# Altium integrated library TI Power Management Battery Management.IntLib: 949 symbols (part 59 of 62)
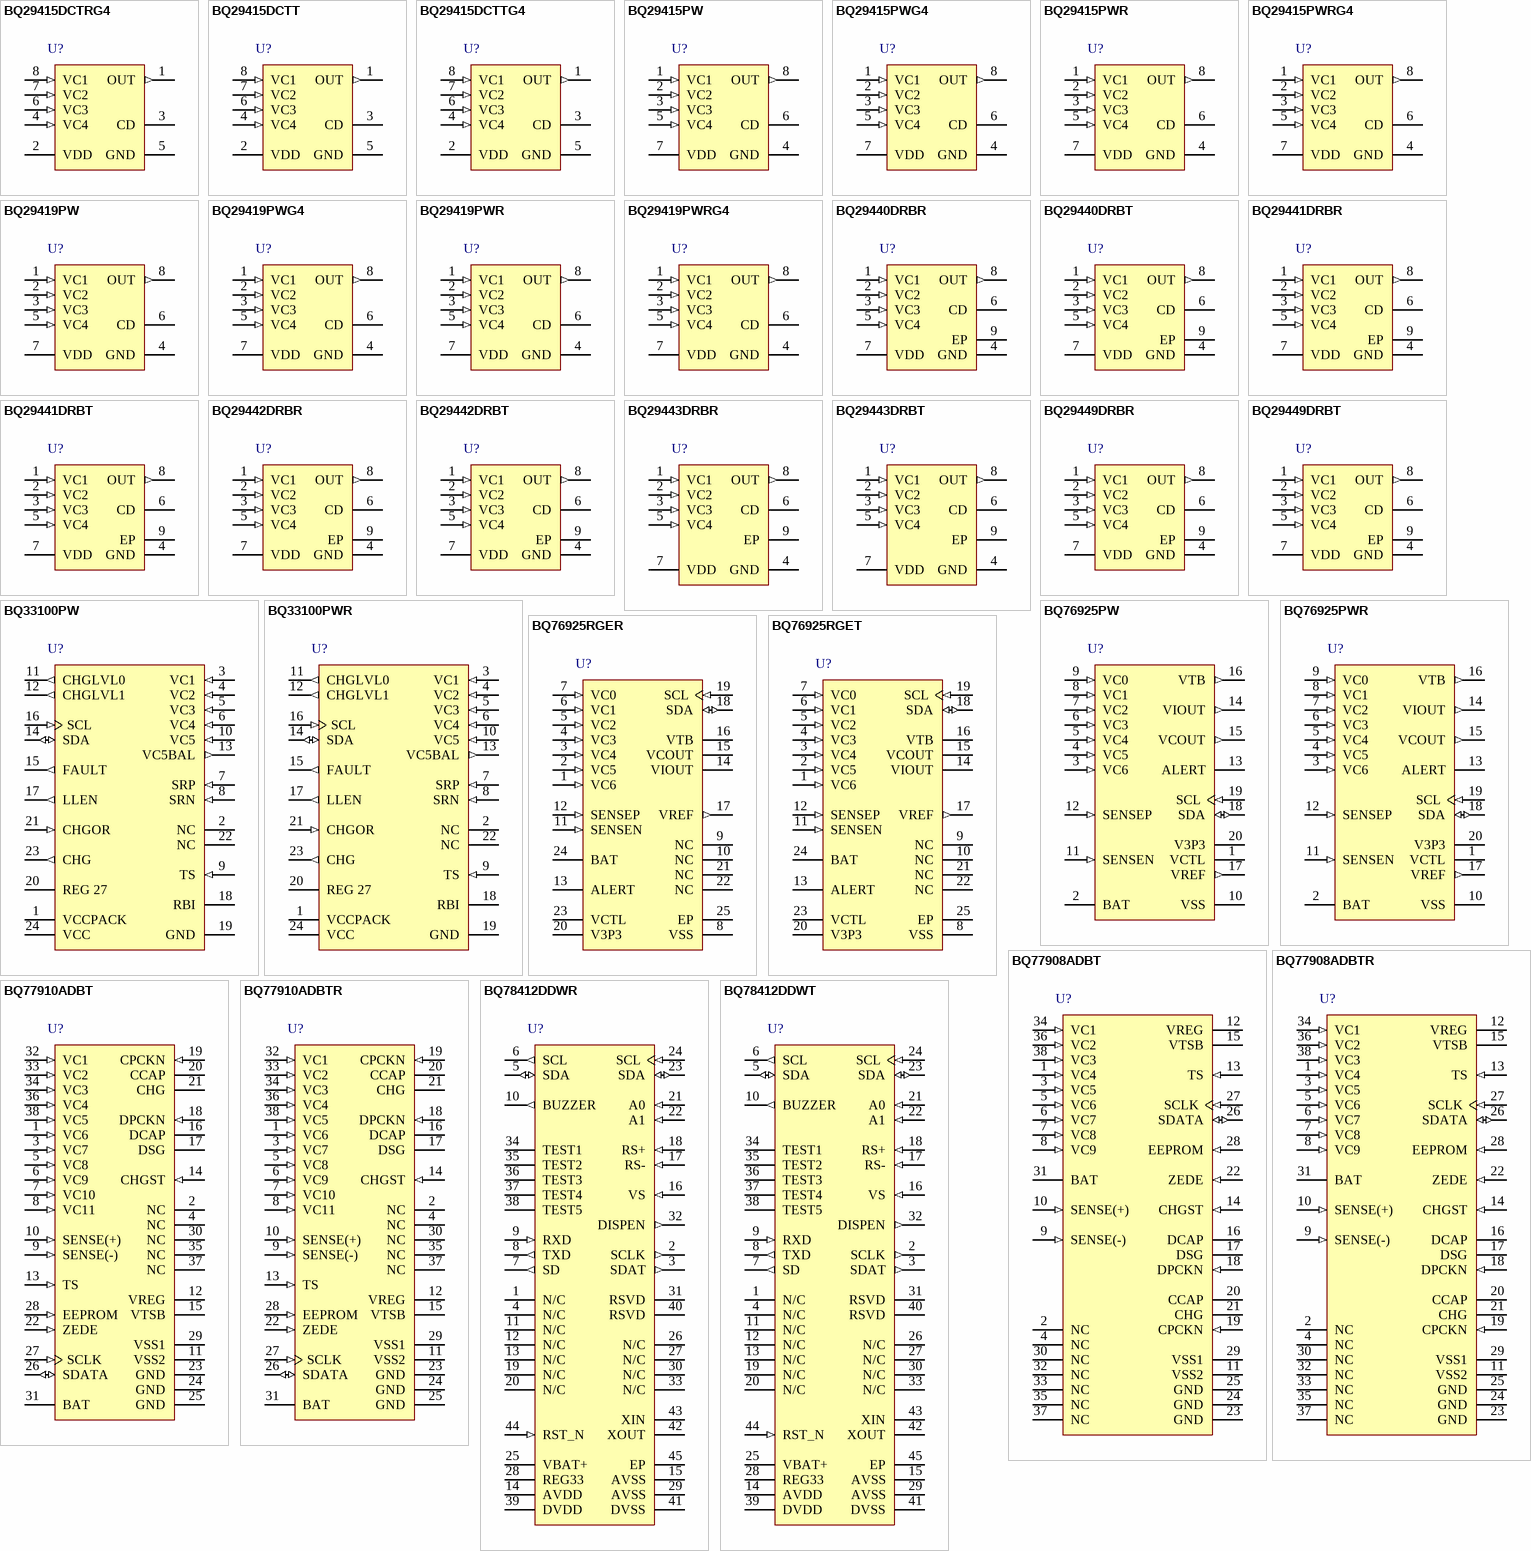
[diagram p92: symbols BQ29415DCTRG4 to BQ78412DDWT]

## BQ29415PWG4
designator U?
Secondary Over Voltage Protection for 2 to 4 Cell in Series Li-Ion / Poly (4.60 V), -40 to 110 degC, 8-pin TSSOP (PW), Green (RoHS & no Sb/Br); PartNumber: BQ29415PWG4; Manufacturer: Texas Instruments; Lead Acid: N; Li-Ion: Y; SubFamily: Lithium Ion Protection; DatasheetVersion: SLUS669G; PackageVersion: revG, Feb-2011; PackageReference: PW8; PackageDescription: 8-Pin Plastic Thin Small Outline Package 3 x 4.4 mm Body ,0.65 mm Pitch; Supplier 1: Digi-Key; Supplier Part Number 1: BQ29415PWG4-ND; Supplier 2: Mouser; Supplier Part Number 2: 595-BQ29415PWG4; Eco-Plan: Green (RoHS & no Sb/Br); Li-Polymer: Y; NiCd: N; NiMH: N; Over Voltage Protection: Y; Mounting Technology: Surface Mount; Code_JEDEC: MO-153; ComponentLink1Description: Datasheet; ComponentLink1URL: http://www.ti.com/general/docs/lit/getliterature.tsp?genericPartNumber=BQ29415&fileType=pdf
footprint PW8_N (TSOP, 8-Leads, Body 3x4.4mm, Pitch 0.65mm, IPC Medium Density)
footprint PW8_L (TSOP, 8-Leads, Body 3x4.4mm, Pitch 0.65mm, IPC High Density)
footprint PW8_M (TSOP, 8-Leads, Body 3x4.4mm, Pitch 0.65mm, IPC Low Density)
pins: 1 VC1 (in) "Sense voltage input for most positive cell", 2 VC2 (in) "Sense voltage input for second most positive cell", 3 VC3 (in) "Sense voltage input for third most positive cell", 4 GND (power) "Ground pin", 5 VC4 (in) "Sense voltage input for least positive cell", 6 CD "An external capacitor is connected to determine the programmable delay time", 7 VDD (power) "Power supply", 8 OUT (out) "Output"

## BQ29415PWR
designator U?
Secondary Over Voltage Protection for 2 to 4 Cell in Series Li-Ion / Poly (4.60 V), -40 to 110 degC, 8-pin TSSOP (PW), Green (RoHS & no Sb/Br); PartNumber: BQ29415PWR; Manufacturer: Texas Instruments; Lead Acid: N; Li-Ion: Y; SubFamily: Lithium Ion Protection; DatasheetVersion: SLUS669G; PackageVersion: revG, Feb-2011; PackageReference: PW8; PackageDescription: 8-Pin Plastic Thin Small Outline Package 3 x 4.4 mm Body ,0.65 mm Pitch; Supplier 1: Digi-Key; Supplier Part Number 1: 296-21380-2-ND; Supplier 2: Digi-Key; Supplier Part Number 2: 296-21380-1-ND; Supplier 3: Digi-Key; Supplier Part Number 3: 296-21380-6-ND; Supplier 4: Newark; Supplier Part Number 4: 26M8972; Supplier 5: Mouser; Supplier Part Number 5: 595-BQ29415PWR; Eco-Plan: Green (RoHS & no Sb/Br); Li-Polymer: Y; NiCd: N; NiMH: N; Over Voltage Protection: Y; Mounting Technology: Surface Mount; Code_JEDEC: MO-153; ComponentLink1Description: Datasheet; ComponentLink1URL: http://www.ti.com/general/docs/lit/getliterature.tsp?genericPartNumber=BQ29415&fileType=pdf
footprint PW8_N (TSOP, 8-Leads, Body 3x4.4mm, Pitch 0.65mm, IPC Medium Density)
footprint PW8_L (TSOP, 8-Leads, Body 3x4.4mm, Pitch 0.65mm, IPC High Density)
footprint PW8_M (TSOP, 8-Leads, Body 3x4.4mm, Pitch 0.65mm, IPC Low Density)
pins: 1 VC1 (in) "Sense voltage input for most positive cell", 2 VC2 (in) "Sense voltage input for second most positive cell", 3 VC3 (in) "Sense voltage input for third most positive cell", 4 GND (power) "Ground pin", 5 VC4 (in) "Sense voltage input for least positive cell", 6 CD "An external capacitor is connected to determine the programmable delay time", 7 VDD (power) "Power supply", 8 OUT (out) "Output"

## BQ29415PWRG4
designator U?
Secondary Over Voltage Protection for 2 to 4 Cell in Series Li-Ion / Poly (4.60 V), -40 to 110 degC, 8-pin TSSOP (PW), Green (RoHS & no Sb/Br); PartNumber: BQ29415PWRG4; Manufacturer: Texas Instruments; Lead Acid: N; Li-Ion: Y; SubFamily: Lithium Ion Protection; DatasheetVersion: SLUS669G; PackageVersion: revG, Feb-2011; PackageReference: PW8; PackageDescription: 8-Pin Plastic Thin Small Outline Package 3 x 4.4 mm Body ,0.65 mm Pitch; Supplier 1: Digi-Key; Supplier Part Number 1: BQ29415PWRG4-ND; Supplier 2: Newark; Supplier Part Number 2: 28M4700; Supplier 3: Mouser; Supplier Part Number 3: 595-BQ29415PWRG4; Eco-Plan: Green (RoHS & no Sb/Br); Li-Polymer: Y; NiCd: N; NiMH: N; Over Voltage Protection: Y; Mounting Technology: Surface Mount; Code_JEDEC: MO-153; ComponentLink1Description: Datasheet; ComponentLink1URL: http://www.ti.com/general/docs/lit/getliterature.tsp?genericPartNumber=BQ29415&fileType=pdf
footprint PW8_N (TSOP, 8-Leads, Body 3x4.4mm, Pitch 0.65mm, IPC Medium Density)
footprint PW8_L (TSOP, 8-Leads, Body 3x4.4mm, Pitch 0.65mm, IPC High Density)
footprint PW8_M (TSOP, 8-Leads, Body 3x4.4mm, Pitch 0.65mm, IPC Low Density)
pins: 1 VC1 (in) "Sense voltage input for most positive cell", 2 VC2 (in) "Sense voltage input for second most positive cell", 3 VC3 (in) "Sense voltage input for third most positive cell", 4 GND (power) "Ground pin", 5 VC4 (in) "Sense voltage input for least positive cell", 6 CD "An external capacitor is connected to determine the programmable delay time", 7 VDD (power) "Power supply", 8 OUT (out) "Output"

## BQ29419PW
designator U?
Voltage Protection for 2, 3, or 4 Cell Li-Ion Batteries, -40 to 110 degC, 8-pin TSSOP (PW), Green (RoHS & no Sb/Br); PartNumber: BQ29419PW; Manufacturer: Texas Instruments; Lead Acid: N; Li-Ion: Y; SubFamily: Lithium Ion Protection; DatasheetVersion: SLUS669G; PackageVersion: revG, Feb-2011; PackageReference: PW8; PackageDescription: 8-Pin Plastic Thin Small Outline Package 3 x 4.4 mm Body ,0.65 mm Pitch; Supplier 1: Digi-Key; Supplier Part Number 1: 296-32619-ND; Supplier 2: Farnell; Supplier Part Number 2: 1647907; Supplier 3: Newark; Supplier Part Number 3: 33P6590; Supplier 4: Newark; Supplier Part Number 4: 53M3251; Supplier 5: Mouser; Supplier Part Number 5: 595-BQ29419PW; Eco-Plan: Green (RoHS & no Sb/Br); Li-Polymer: Y; NiCd: N; NiMH: N; Over Voltage Protection: Y; Mounting Technology: Surface Mount; Code_JEDEC: MO-153; ComponentLink1Description: Datasheet; ComponentLink1URL: http://www.ti.com/general/docs/lit/getliterature.tsp?genericPartNumber=BQ29419&fileType=pdf
footprint PW8_N (TSOP, 8-Leads, Body 3x4.4mm, Pitch 0.65mm, IPC Medium Density)
footprint PW8_L (TSOP, 8-Leads, Body 3x4.4mm, Pitch 0.65mm, IPC High Density)
footprint PW8_M (TSOP, 8-Leads, Body 3x4.4mm, Pitch 0.65mm, IPC Low Density)
pins: 1 VC1 (in) "Sense voltage input for most positive cell", 2 VC2 (in) "Sense voltage input for second most positive cell", 3 VC3 (in) "Sense voltage input for third most positive cell", 4 GND (power) "Ground pin", 5 VC4 (in) "Sense voltage input for least positive cell", 6 CD "An external capacitor is connected to determine the programmable delay time", 7 VDD (power) "Power supply", 8 OUT (out) "Output"

## BQ29419PWG4
designator U?
Voltage Protection for 2, 3, or 4 Cell Li-Ion Batteries, -40 to 110 degC, 8-pin TSSOP (PW), Green (RoHS & no Sb/Br); PartNumber: BQ29419PWG4; Manufacturer: Texas Instruments; Lead Acid: N; Li-Ion: Y; SubFamily: Lithium Ion Protection; DatasheetVersion: SLUS669G; PackageVersion: revG, Feb-2011; PackageReference: PW8; PackageDescription: 8-Pin Plastic Thin Small Outline Package 3 x 4.4 mm Body ,0.65 mm Pitch; Supplier 1: Digi-Key; Supplier Part Number 1: BQ29419PWG4-ND; Supplier 2: Newark; Supplier Part Number 2: 53M3252; Supplier 3: Mouser; Supplier Part Number 3: 595-BQ29419PWG4; Eco-Plan: Green (RoHS & no Sb/Br); Li-Polymer: Y; NiCd: N; NiMH: N; Over Voltage Protection: Y; Mounting Technology: Surface Mount; Code_JEDEC: MO-153; ComponentLink1Description: Datasheet; ComponentLink1URL: http://www.ti.com/general/docs/lit/getliterature.tsp?genericPartNumber=BQ29419&fileType=pdf
footprint PW8_N (TSOP, 8-Leads, Body 3x4.4mm, Pitch 0.65mm, IPC Medium Density)
footprint PW8_L (TSOP, 8-Leads, Body 3x4.4mm, Pitch 0.65mm, IPC High Density)
footprint PW8_M (TSOP, 8-Leads, Body 3x4.4mm, Pitch 0.65mm, IPC Low Density)
pins: 1 VC1 (in) "Sense voltage input for most positive cell", 2 VC2 (in) "Sense voltage input for second most positive cell", 3 VC3 (in) "Sense voltage input for third most positive cell", 4 GND (power) "Ground pin", 5 VC4 (in) "Sense voltage input for least positive cell", 6 CD "An external capacitor is connected to determine the programmable delay time", 7 VDD (power) "Power supply", 8 OUT (out) "Output"

## BQ29419PWR
designator U?
Voltage Protection for 2, 3, or 4 Cell Li-Ion Batteries, -40 to 110 degC, 8-pin TSSOP (PW), Green (RoHS & no Sb/Br); PartNumber: BQ29419PWR; Manufacturer: Texas Instruments; Lead Acid: N; Li-Ion: Y; SubFamily: Lithium Ion Protection; DatasheetVersion: SLUS669G; PackageVersion: revG, Feb-2011; PackageReference: PW8; PackageDescription: 8-Pin Plastic Thin Small Outline Package 3 x 4.4 mm Body ,0.65 mm Pitch; Supplier 1: Digi-Key; Supplier Part Number 1: 296-22030-2-ND; Supplier 2: Digi-Key; Supplier Part Number 2: 296-22030-1-ND; Supplier 3: Digi-Key; Supplier Part Number 3: 296-22030-6-ND; Supplier 4: Newark; Supplier Part Number 4: 53M3253; Supplier 5: Mouser; Supplier Part Number 5: 595-BQ29419PWR; Eco-Plan: Green (RoHS & no Sb/Br); Li-Polymer: Y; NiCd: N; NiMH: N; Over Voltage Protection: Y; Mounting Technology: Surface Mount; Code_JEDEC: MO-153; ComponentLink1Description: Datasheet; ComponentLink1URL: http://www.ti.com/general/docs/lit/getliterature.tsp?genericPartNumber=BQ29419&fileType=pdf
footprint PW8_N (TSOP, 8-Leads, Body 3x4.4mm, Pitch 0.65mm, IPC Medium Density)
footprint PW8_L (TSOP, 8-Leads, Body 3x4.4mm, Pitch 0.65mm, IPC High Density)
footprint PW8_M (TSOP, 8-Leads, Body 3x4.4mm, Pitch 0.65mm, IPC Low Density)
pins: 1 VC1 (in) "Sense voltage input for most positive cell", 2 VC2 (in) "Sense voltage input for second most positive cell", 3 VC3 (in) "Sense voltage input for third most positive cell", 4 GND (power) "Ground pin", 5 VC4 (in) "Sense voltage input for least positive cell", 6 CD "An external capacitor is connected to determine the programmable delay time", 7 VDD (power) "Power supply", 8 OUT (out) "Output"

## BQ29419PWRG4
designator U?
Voltage Protection for 2, 3, or 4 Cell Li-Ion Batteries, -40 to 110 degC, 8-pin TSSOP (PW), Green (RoHS & no Sb/Br); PartNumber: BQ29419PWRG4; Manufacturer: Texas Instruments; Lead Acid: N; Li-Ion: Y; SubFamily: Lithium Ion Protection; DatasheetVersion: SLUS669G; PackageVersion: revG, Feb-2011; PackageReference: PW8; PackageDescription: 8-Pin Plastic Thin Small Outline Package 3 x 4.4 mm Body ,0.65 mm Pitch; Supplier 1: Digi-Key; Supplier Part Number 1: BQ29419PWRG4-ND; Supplier 2: Newark; Supplier Part Number 2: 53M3254; Supplier 3: Mouser; Supplier Part Number 3: 595-BQ29419PWRG4; Eco-Plan: Green (RoHS & no Sb/Br); Li-Polymer: Y; NiCd: N; NiMH: N; Over Voltage Protection: Y; Mounting Technology: Surface Mount; Code_JEDEC: MO-153; ComponentLink1Description: Datasheet; ComponentLink1URL: http://www.ti.com/general/docs/lit/getliterature.tsp?genericPartNumber=BQ29419&fileType=pdf
footprint PW8_N (TSOP, 8-Leads, Body 3x4.4mm, Pitch 0.65mm, IPC Medium Density)
footprint PW8_L (TSOP, 8-Leads, Body 3x4.4mm, Pitch 0.65mm, IPC High Density)
footprint PW8_M (TSOP, 8-Leads, Body 3x4.4mm, Pitch 0.65mm, IPC Low Density)
pins: 1 VC1 (in) "Sense voltage input for most positive cell", 2 VC2 (in) "Sense voltage input for second most positive cell", 3 VC3 (in) "Sense voltage input for third most positive cell", 4 GND (power) "Ground pin", 5 VC4 (in) "Sense voltage input for least positive cell", 6 CD "An external capacitor is connected to determine the programmable delay time", 7 VDD (power) "Power supply", 8 OUT (out) "Output"

## BQ29440DRBR
designator U?
Secondary Over Voltage Protection for 2 to 4 cell in Series Li-Ion / Poly (4.35 V), -40 to 85 degC, 8-pin SON (DRB), Green (RoHS & no Sb/Br); PartNumber: BQ29440DRBR; Manufacturer: Texas Instruments; Lead Acid: N; SubFamily: Lithium Ion Protection; DatasheetVersion: SLUSA15C; PackageVersion: revK, Jun-2012; PackageReference: DRB8-2400X1650TP; PackageDescription: 8-Pin Plastic Small Outline No-Lead, 3 x 3 x 1 mm Body, 0.65 mm Pitch, Exposed Pad; Supplier 1: Digi-Key; Supplier Part Number 1: 296-27576-2-ND; Supplier 2: Digi-Key; Supplier Part Number 2: 296-27576-1-ND; Supplier 3: Digi-Key; Supplier Part Number 3: 296-27576-6-ND; Supplier 4: Newark; Supplier Part Number 4: 79R7896; Supplier 5: Mouser; Supplier Part Number 5: 595-BQ29440DRBR; Eco-Plan: Green (RoHS & no Sb/Br); Li-Ion: N; Li-Polymer: N; NiCd: N; NiMH: N; Over Voltage Protection: N; Mounting Technology: Surface Mount; ComponentLink1Description: Datasheet; ComponentLink1URL: http://www.ti.com/general/docs/lit/getliterature.tsp?genericPartNumber=BQ29440&fileType=pdf
footprint DRB8-2400X1650TP (SON, 8-Leads, Body 3x3mm, Pitch 0.65mm, Thermal Pad 2.4x1.65mm, TI Recommended)
pins: 1 VC1 (in) "Sense voltage input for top cell", 2 VC2 (in) "Sense voltage input for second-to-top cell", 3 VC3 (in) "Sense voltage input for third-to-top cell", 4 GND (power) "Ground pin", 5 VC4 (in) "Sense voltage input for fourth-to-top cell (bottom cell)", 6 CD "Connection to external capacitor for programmable delay time", 7 VDD (power) "Power supply", 8 OUT (out) "Output", 9 EP "Exposed thermal pad"

## BQ29440DRBT
designator U?
Secondary Over Voltage Protection for 2 to 4 cell in Series Li-Ion / Poly (4.35 V), -40 to 85 degC, 8-pin SON (DRB), Green (RoHS & no Sb/Br); PartNumber: BQ29440DRBT; Manufacturer: Texas Instruments; Lead Acid: N; SubFamily: Lithium Ion Protection; DatasheetVersion: SLUSA15C; PackageVersion: revK, Jun-2012; PackageReference: DRB8-2400X1650TP; PackageDescription: 8-Pin Plastic Small Outline No-Lead, 3 x 3 x 1 mm Body, 0.65 mm Pitch, Exposed Pad; Supplier 1: Digi-Key; Supplier Part Number 1: 296-27607-2-ND; Supplier 2: Digi-Key; Supplier Part Number 2: 296-27607-1-ND; Supplier 3: Digi-Key; Supplier Part Number 3: 296-27607-6-ND; Supplier 4: Farnell; Supplier Part Number 4: 1829677; Supplier 5: Farnell; Supplier Part Number 5: 1829677RL; Supplier 6: Newark; Supplier Part Number 6: 78R4077; Supplier 7: Mouser; Supplier Part Number 7: 595-BQ29440DRBT; Eco-Plan: Green (RoHS & no Sb/Br); Li-Ion: N; Li-Polymer: N; NiCd: N; NiMH: N; Over Voltage Protection: N; Mounting Technology: Surface Mount; ComponentLink1Description: Datasheet; ComponentLink1URL: http://www.ti.com/general/docs/lit/getliterature.tsp?genericPartNumber=BQ29440&fileType=pdf
footprint DRB8-2400X1650TP (SON, 8-Leads, Body 3x3mm, Pitch 0.65mm, Thermal Pad 2.4x1.65mm, TI Recommended)
pins: 1 VC1 (in) "Sense voltage input for top cell", 2 VC2 (in) "Sense voltage input for second-to-top cell", 3 VC3 (in) "Sense voltage input for third-to-top cell", 4 GND (power) "Ground pin", 5 VC4 (in) "Sense voltage input for fourth-to-top cell (bottom cell)", 6 CD "Connection to external capacitor for programmable delay time", 7 VDD (power) "Power supply", 8 OUT (out) "Output", 9 EP "Exposed thermal pad"

## BQ29441DRBR
designator U?
Voltage Protection for Two, Three, or Four-Cell Li-Ion Batteries (4.40 V), -40 to 85 degC, 8-pin SON (DRB), Green (RoHS & no Sb/Br); PartNumber: BQ29441DRBR; Manufacturer: Texas Instruments; Lead Acid: N; SubFamily: Lithium Ion Protection; DatasheetVersion: SLUSA15C; PackageVersion: revK, Jun-2012; PackageReference: DRB8-2400X1650TP; PackageDescription: 8-Pin Plastic Small Outline No-Lead, 3 x 3 x 1 mm Body, 0.65 mm Pitch, Exposed Pad; Supplier 1: Digi-Key; Supplier Part Number 1: 296-28072-2-ND; Supplier 2: Digi-Key; Supplier Part Number 2: 296-28072-1-ND; Supplier 3: Digi-Key; Supplier Part Number 3: 296-28072-6-ND; Supplier 4: Mouser; Supplier Part Number 4: 595-BQ29441DRBR; Eco-Plan: Green (RoHS & no Sb/Br); Li-Ion: N; Li-Polymer: N; NiCd: N; NiMH: N; Over Voltage Protection: N; Mounting Technology: Surface Mount; ComponentLink1Description: Datasheet; ComponentLink1URL: http://www.ti.com/general/docs/lit/getliterature.tsp?genericPartNumber=BQ29441&fileType=pdf
footprint DRB8-2400X1650TP (SON, 8-Leads, Body 3x3mm, Pitch 0.65mm, Thermal Pad 2.4x1.65mm, TI Recommended)
pins: 1 VC1 (in) "Sense voltage input for top cell", 2 VC2 (in) "Sense voltage input for second-to-top cell", 3 VC3 (in) "Sense voltage input for third-to-top cell", 4 GND (power) "Ground pin", 5 VC4 (in) "Sense voltage input for fourth-to-top cell (bottom cell)", 6 CD "Connection to external capacitor for programmable delay time", 7 VDD (power) "Power supply", 8 OUT (out) "Output", 9 EP "Exposed Thermal Pad"

## BQ29441DRBT
designator U?
Voltage Protection for Two, Three, or Four-Cell Li-Ion Batteries (4.40 V), -40 to 85 degC, 8-pin SON (DRB), Green (RoHS & no Sb/Br); PartNumber: BQ29441DRBT; Manufacturer: Texas Instruments; Lead Acid: N; SubFamily: Lithium Ion Protection; DatasheetVersion: SLUSA15C; PackageVersion: revK, Jun-2012; PackageReference: DRB8-2400X1650TP; PackageDescription: 8-Pin Plastic Small Outline No-Lead, 3 x 3 x 1 mm Body, 0.65 mm Pitch, Exposed Pad; Supplier 1: Digi-Key; Supplier Part Number 1: BQ29441DRBT-ND; Supplier 2: Mouser; Supplier Part Number 2: 595-BQ29441DRBT; Eco-Plan: Green (RoHS & no Sb/Br); Li-Ion: N; Li-Polymer: N; NiCd: N; NiMH: N; Over Voltage Protection: N; Mounting Technology: Surface Mount; ComponentLink1Description: Datasheet; ComponentLink1URL: http://www.ti.com/general/docs/lit/getliterature.tsp?genericPartNumber=BQ29441&fileType=pdf
footprint DRB8-2400X1650TP (SON, 8-Leads, Body 3x3mm, Pitch 0.65mm, Thermal Pad 2.4x1.65mm, TI Recommended)
pins: 1 VC1 (in) "Sense voltage input for top cell", 2 VC2 (in) "Sense voltage input for second-to-top cell", 3 VC3 (in) "Sense voltage input for third-to-top cell", 4 GND (power) "Ground pin", 5 VC4 (in) "Sense voltage input for fourth-to-top cell (bottom cell)", 6 CD "Connection to external capacitor for programmable delay time", 7 VDD (power) "Power supply", 8 OUT (out) "Output", 9 EP "Exposed Thermal Pad"

## BQ29442DRBR
designator U?
Voltage Protection for Two, Three, or Four-Cell Li-Ion Batteries (4.45 V), -40 to 85 degC, 8-pin SON (DRB), Green (RoHS & no Sb/Br); PartNumber: BQ29442DRBR; Manufacturer: Texas Instruments; Lead Acid: N; SubFamily: Lithium Ion Protection; DatasheetVersion: SLUSA15C; PackageVersion: revK, Jun-2012; PackageReference: DRB8-2400X1650TP; PackageDescription: 8-Pin Plastic Small Outline No-Lead, 3 x 3 x 1 mm Body, 0.65 mm Pitch, Exposed Pad; Supplier 1: Digi-Key; Supplier Part Number 1: 296-28073-2-ND; Supplier 2: Digi-Key; Supplier Part Number 2: 296-28073-1-ND; Supplier 3: Digi-Key; Supplier Part Number 3: 296-28073-6-ND; Supplier 4: Newark; Supplier Part Number 4: 24T4553; Supplier 5: Mouser; Supplier Part Number 5: 595-BQ29442DRBR; Eco-Plan: Green (RoHS & no Sb/Br); Li-Ion: N; Li-Polymer: N; NiCd: N; NiMH: N; Over Voltage Protection: N; Mounting Technology: Surface Mount; ComponentLink1Description: Datasheet; ComponentLink1URL: http://www.ti.com/general/docs/lit/getliterature.tsp?genericPartNumber=BQ29442&fileType=pdf
footprint DRB8-2400X1650TP (SON, 8-Leads, Body 3x3mm, Pitch 0.65mm, Thermal Pad 2.4x1.65mm, TI Recommended)
pins: 1 VC1 (in) "Sense voltage input for top cell", 2 VC2 (in) "Sense voltage input for second-to-top cell", 3 VC3 (in) "Sense voltage input for third-to-top cell", 4 GND (power) "Ground pin", 5 VC4 (in) "Sense voltage input for fourth-to-top cell (bottom cell)", 6 CD "Connection to external capacitor for programmable delay time", 7 VDD (power) "Power supply", 8 OUT (out) "Output", 9 EP "Exposed Thermal Pad"

## BQ29442DRBT
designator U?
Voltage Protection for Two, Three, or Four Cell Li-Ion Batteries (4.45 V), -40 to 85 degC, 8-pin SON (DRB), Green (RoHS & no Sb/Br); PartNumber: BQ29442DRBT; Manufacturer: Texas Instruments; Lead Acid: N; SubFamily: Lithium Ion Protection; DatasheetVersion: SLUSA15C; PackageVersion: revK, Jun-2012; PackageReference: DRB8-2400X1650TP; PackageDescription: 8-Pin Plastic Small Outline No-Lead, 3 x 3 x 1 mm Body, 0.65 mm Pitch, Exposed Pad; Supplier 1: Digi-Key; Supplier Part Number 1: BQ29442DRBT-ND; Supplier 2: Mouser; Supplier Part Number 2: 595-BQ29442DRBT; Eco-Plan: Green (RoHS & no Sb/Br); Li-Ion: N; Li-Polymer: N; NiCd: N; NiMH: N; Over Voltage Protection: N; Mounting Technology: Surface Mount; ComponentLink1Description: Datasheet; ComponentLink1URL: http://www.ti.com/general/docs/lit/getliterature.tsp?genericPartNumber=BQ29442&fileType=pdf
footprint DRB8-2400X1650TP (SON, 8-Leads, Body 3x3mm, Pitch 0.65mm, Thermal Pad 2.4x1.65mm, TI Recommended)
pins: 1 VC1 (in) "Sense voltage input for top cell", 2 VC2 (in) "Sense voltage input for second-to-top cell", 3 VC3 (in) "Sense voltage input for third-to-top cell", 4 GND (power) "Ground pin", 5 VC4 (in) "Sense voltage input for fourth-to-top cell (bottom cell)", 6 CD "Connection to external capacitor for programmable delay time", 7 VDD (power) "Power supply", 8 OUT (out) "Output", 9 EP "Exposed Thermal Pad"

## BQ29443DRBR
designator U?
Voltage Protection for Two, Three, or Four-Cell Li-Ion Batteries (4.50 V), -40 to 85 degC, 8-pin SON (DRB), Green (RoHS & no Sb/Br); PartNumber: BQ29443DRBR; Manufacturer: Texas Instruments; Lead Acid: N; SubFamily: Lithium Ion Protection; DatasheetVersion: SLUSA15C; PackageVersion: revK, Jun-2012; PackageReference: DRB8-2400X1650TP; PackageDescription: 8-Pin Plastic Small Outline No-Lead, 3 x 3 x 1 mm Body, 0.65 mm Pitch, Exposed Pad; Supplier 1: Digi-Key; Supplier Part Number 1: 296-28074-2-ND; Supplier 2: Digi-Key; Supplier Part Number 2: 296-28074-1-ND; Supplier 3: Digi-Key; Supplier Part Number 3: 296-28074-6-ND; Supplier 4: Newark; Supplier Part Number 4: 24T4555; Supplier 5: Mouser; Supplier Part Number 5: 595-BQ29443DRBR; Eco-Plan: Green (RoHS & no Sb/Br); Li-Ion: N; Li-Polymer: N; NiCd: N; NiMH: N; Over Voltage Protection: N; Mounting Technology: Surface Mount; ComponentLink1Description: Datasheet; ComponentLink1URL: http://www.ti.com/general/docs/lit/getliterature.tsp?genericPartNumber=BQ29443&fileType=pdf
footprint DRB8-2400X1650TP (SON, 8-Leads, Body 3x3mm, Pitch 0.65mm, Thermal Pad 2.4x1.65mm, TI Recommended)
pins: 1 VC1 (in) "Sense voltage input for top cell", 2 VC2 (in) "Sense voltage input for second-to-top cell", 3 VC3 (in) "Sense voltage input for third-to-top cell", 4 GND (power) "Ground pin", 5 VC4 (in) "Sense voltage input for fourth-to-top cell (bottom cell)", 6 CD "Connection to external capacitor for programmable delay time", 7 VDD (power) "Power supply", 8 OUT (out) "Output", 9 EP "Exposed Thermal Pad"

## BQ29443DRBT
designator U?
Voltage Protection for Two, Three, or Four-Cell Li-Ion Batteries (4.50 V), -40 to 85 degC, 8-pin SON (DRB), Green (RoHS & no Sb/Br); PartNumber: BQ29443DRBT; Manufacturer: Texas Instruments; Lead Acid: N; SubFamily: Lithium Ion Protection; DatasheetVersion: SLUSA15C; PackageVersion: revK, Jun-2012; PackageReference: DRB8-2400X1650TP; PackageDescription: 8-Pin Plastic Small Outline No-Lead, 3 x 3 x 1 mm Body, 0.65 mm Pitch, Exposed Pad; Supplier 1: Digi-Key; Supplier Part Number 1: BQ29443DRBT-ND; Supplier 2: Newark; Supplier Part Number 2: 24T4556; Supplier 3: Mouser; Supplier Part Number 3: 595-BQ29443DRBT; Eco-Plan: Green (RoHS & no Sb/Br); Li-Ion: N; Li-Polymer: N; NiCd: N; NiMH: N; Over Voltage Protection: N; Mounting Technology: Surface Mount; ComponentLink1Description: Datasheet; ComponentLink1URL: http://www.ti.com/general/docs/lit/getliterature.tsp?genericPartNumber=BQ29443&fileType=pdf
footprint DRB8-2400X1650TP (SON, 8-Leads, Body 3x3mm, Pitch 0.65mm, Thermal Pad 2.4x1.65mm, TI Recommended)
pins: 1 VC1 (in) "Sense voltage input for top cell", 2 VC2 (in) "Sense voltage input for second-to-top cell", 3 VC3 (in) "Sense voltage input for third-to-top cell", 4 GND (power) "Ground pin", 5 VC4 (in) "Sense voltage input for fourth-to-top cell (bottom cell)", 6 CD "Connection to external capacitor for programmable delay time", 7 VDD (power) "Power supply", 8 OUT (out) "Output", 9 EP "Exposed Thermal Pad"

## BQ29449DRBR
designator U?
Secondary Over Voltage Protection for 2 to 4 cell in Series Li-Ion / Poly (4.30 V), -40 to 85 degC, 8-pin SON (DRB), Green (RoHS & no Sb/Br); PartNumber: BQ29449DRBR; Manufacturer: Texas Instruments; Lead Acid: N; SubFamily: Lithium Ion Protection; DatasheetVersion: SLUSA15C; PackageVersion: revK, Jun-2012; PackageReference: DRB8-2400X1650TP; PackageDescription: 8-Pin Plastic Small Outline No-Lead, 3 x 3 x 1 mm Body, 0.65 mm Pitch, Exposed Pad; Supplier 1: Digi-Key; Supplier Part Number 1: 296-27577-2-ND; Supplier 2: Digi-Key; Supplier Part Number 2: 296-27577-1-ND; Supplier 3: Digi-Key; Supplier Part Number 3: 296-27577-6-ND; Supplier 4: Newark; Supplier Part Number 4: 79R7897; Supplier 5: Mouser; Supplier Part Number 5: 595-BQ29449DRBR; Eco-Plan: Green (RoHS & no Sb/Br); Li-Ion: N; Li-Polymer: N; NiCd: N; NiMH: N; Over Voltage Protection: N; Mounting Technology: Surface Mount; ComponentLink1Description: Datasheet; ComponentLink1URL: http://www.ti.com/general/docs/lit/getliterature.tsp?genericPartNumber=BQ29449&fileType=pdf
footprint DRB8-2400X1650TP (SON, 8-Leads, Body 3x3mm, Pitch 0.65mm, Thermal Pad 2.4x1.65mm, TI Recommended)
pins: 1 VC1 (in) "Sense voltage input for top cell", 2 VC2 (in) "Sense voltage input for second-to-top cell", 3 VC3 (in) "Sense voltage input for third-to-top cell", 4 GND (power) "Ground pin", 5 VC4 (in) "Sense voltage input for fourth-to-top cell (bottom cell)", 6 CD "Connection to external capacitor for programmable delay time", 7 VDD (power) "Power supply", 8 OUT (out) "Output", 9 EP "Exposed thermal pad"

## BQ29449DRBT
designator U?
Secondary Over Voltage Protection for 2 to 4 cell in Series Li-Ion / Poly (4.30 V), -40 to 85 degC, 8-pin SON (DRB), Green (RoHS & no Sb/Br); PartNumber: BQ29449DRBT; Manufacturer: Texas Instruments; Lead Acid: N; SubFamily: Lithium Ion Protection; DatasheetVersion: SLUSA15C; PackageVersion: revK, Jun-2012; PackageReference: DRB8-2400X1650TP; PackageDescription: 8-Pin Plastic Small Outline No-Lead, 3 x 3 x 1 mm Body, 0.65 mm Pitch, Exposed Pad; Supplier 1: Digi-Key; Supplier Part Number 1: 296-27608-2-ND; Supplier 2: Digi-Key; Supplier Part Number 2: 296-27608-1-ND; Supplier 3: Digi-Key; Supplier Part Number 3: 296-27608-6-ND; Supplier 4: Farnell; Supplier Part Number 4: 1829678RL; Supplier 5: Farnell; Supplier Part Number 5: 1829678; Supplier 6: Newark; Supplier Part Number 6: 78R4078; Supplier 7: Mouser; Supplier Part Number 7: 595-BQ29449DRBT; Eco-Plan: Green (RoHS & no Sb/Br); Li-Ion: N; Li-Polymer: N; NiCd: N; NiMH: N; Over Voltage Protection: N; Mounting Technology: Surface Mount; ComponentLink1Description: Datasheet; ComponentLink1URL: http://www.ti.com/general/docs/lit/getliterature.tsp?genericPartNumber=BQ29449&fileType=pdf
footprint DRB8-2400X1650TP (SON, 8-Leads, Body 3x3mm, Pitch 0.65mm, Thermal Pad 2.4x1.65mm, TI Recommended)
pins: 1 VC1 (in) "Sense voltage input for top cell", 2 VC2 (in) "Sense voltage input for second-to-top cell", 3 VC3 (in) "Sense voltage input for third-to-top cell", 4 GND (power) "Ground pin", 5 VC4 (in) "Sense voltage input for fourth-to-top cell (bottom cell)", 6 CD "Connection to external capacitor for programmable delay time", 7 VDD (power) "Power supply", 8 OUT (out) "Output", 9 EP "Exposed thermal pad"

## BQ33100PW
designator U?
Fully Integrated, Single Chip, Super Capacitor Manager, -40 to 85 degC, 24-pin TSSOP (PW), Green (RoHS & no Sb/Br); PartNumber: BQ33100PW; Manufacturer: Texas Instruments; Lead Acid: N; SubFamily: Battery Fuel Gauge; DatasheetVersion: SLUS987A; PackageVersion: revG, Feb-2011; PackageReference: PW24; PackageDescription: 24-Pin Thin Small Outline Package 0.65 mm Pitch; Supplier 1: Digi-Key; Supplier Part Number 1: BQ33100PW-ND; Supplier 2: Newark; Supplier Part Number 2: 40T4620; Supplier 3: Mouser; Supplier Part Number 3: 595-BQ33100PW; Eco-Plan: Green (RoHS & no Sb/Br); Li-Ion: N; Li-Polymer: N; NiCd: N; NiMH: N; Over Voltage Protection: N; Mounting Technology: Surface Mount; Code_JEDEC: MO-153; ComponentLink1Description: Datasheet; ComponentLink1URL: http://www.ti.com/general/docs/lit/getliterature.tsp?genericPartNumber=BQ33100&fileType=pdf
footprint PW24_N (TSOP, 24-Leads, Body 7.8x4.4mm, Pitch 0.65mm, IPC Medium Density)
footprint PW24_L (TSOP, 24-Leads, Body 7.8x4.4mm, Pitch 0.65mm, IPC High Density)
footprint PW24_M (TSOP, 24-Leads, Body 7.8x4.4mm, Pitch 0.65mm, IPC Low Density)
pins: 1 VCCPACK (power) "Power supply from power", 2 NC "Not used and should be connected to VCC", 3 VC1 (in) "Sense voltage input terminal and external capacitor voltage balancing drive output for the 5th series capacitor, and stack measurement input. See 'Series Capacitor Configuration' for systems with less than 5 series", 4 VC2 (in) "Sense voltage input terminal and external capacitor voltage balancing drive output for the 4th series capacitor. See 'Series Capacitor Configuration' for systems with less than 5 series", 5 VC3 (in) "Sense voltage input terminal and external capacitor voltage balancing drive output for the 3rd series capacitor. See 'Series Capacitor Configuration' for systems with less than 5 series", 6 VC4 (in) "Sense voltage input terminal and external capacitor voltage balancing drive output for the 2nd series capacitor. See 'Series Capacitor Configuration' for systems with less than 5 series", 7 SRP (in) "Analog input pin connected to the internal ADC peripheral for measuring a small voltage between SRP and SRN where SRP is the top of the sense resistor.", 8 SRN (in) "Analog input pin connected to the internal ADC peripheral for measuring a small voltage between SRP and SRN where SRN is the bottom of the sense resistor.", 9 TS (in) "Thermistor input", 10 VC5 (in) "Sense voltage input terminal and external capacitor voltage balancing drive output for the 1st capacitor. See 'Series Capacitor Configuration' for systems with less than 5 series", 11 CHGLVL0 (out) "Charge Control Output 0", 12 CHGLVL1 (out) "Charge Control Output 1", 13 VC5BAL (out) "Cell balance control output for the least positive capacitor", 14 SDA (io) "Serial Data: Transmits and Receives data", 15 FAULT (out) "Active high output to indicate fault condition", 16 SCL (in) "Serial clock input: Clocks data on SDA", 17 LLEN (out) "Learn Load Enable Output", 18 RBI (power) "RAM backup pin to provide backup potential to the internal DATA RAM if power is momentarily lost by using a capacitor attached between RBI and GND", 19 GND (power) "Ground", 20 REG 27 (power) "Internal power supply 2.7V bias output", 21 CHGOR (in) "CHG Over Ride input. If not used connect to VSS", 22 NC "No connect, leave pin floating", 23 CHG (out) "P-Channel FET drive for controlling charge", 24 VCC (power) "Positive input from power supply"

## BQ33100PWR
designator U?
Fully Integrated, Single Chip, Super Capacitor Manager, -40 to 85 degC, 24-pin TSSOP (PW), Green (RoHS & no Sb/Br); PartNumber: BQ33100PWR; Manufacturer: Texas Instruments; Lead Acid: N; SubFamily: Battery Fuel Gauge; DatasheetVersion: SLUS987A; PackageVersion: revG, Feb-2011; PackageReference: PW24; PackageDescription: 24-Pin Thin Small Outline Package 0.65 mm Pitch; Supplier 1: Digi-Key; Supplier Part Number 1: 296-28422-2-ND; Supplier 2: Digi-Key; Supplier Part Number 2: 296-28422-1-ND; Supplier 3: Digi-Key; Supplier Part Number 3: 296-28422-6-ND; Supplier 4: Newark; Supplier Part Number 4: 40T4621; Supplier 5: Mouser; Supplier Part Number 5: 595-BQ33100PWR; Eco-Plan: Green (RoHS & no Sb/Br); Li-Ion: N; Li-Polymer: N; NiCd: N; NiMH: N; Over Voltage Protection: N; Mounting Technology: Surface Mount; Code_JEDEC: MO-153; ComponentLink1Description: Datasheet; ComponentLink1URL: http://www.ti.com/general/docs/lit/getliterature.tsp?genericPartNumber=BQ33100&fileType=pdf
footprint PW24_N (TSOP, 24-Leads, Body 7.8x4.4mm, Pitch 0.65mm, IPC Medium Density)
footprint PW24_L (TSOP, 24-Leads, Body 7.8x4.4mm, Pitch 0.65mm, IPC High Density)
footprint PW24_M (TSOP, 24-Leads, Body 7.8x4.4mm, Pitch 0.65mm, IPC Low Density)
pins: 1 VCCPACK (power) "Power supply from power", 2 NC "Not used and should be connected to VCC", 3 VC1 (in) "Sense voltage input terminal and external capacitor voltage balancing drive output for the 5th series capacitor, and stack measurement input. See 'Series Capacitor Configuration' for systems with less than 5 series", 4 VC2 (in) "Sense voltage input terminal and external capacitor voltage balancing drive output for the 4th series capacitor. See 'Series Capacitor Configuration' for systems with less than 5 series", 5 VC3 (in) "Sense voltage input terminal and external capacitor voltage balancing drive output for the 3rd series capacitor. See 'Series Capacitor Configuration' for systems with less than 5 series", 6 VC4 (in) "Sense voltage input terminal and external capacitor voltage balancing drive output for the 2nd series capacitor. See 'Series Capacitor Configuration' for systems with less than 5 series", 7 SRP (in) "Analog input pin connected to the internal ADC peripheral for measuring a small voltage between SRP and SRN where SRP is the top of the sense resistor.", 8 SRN (in) "Analog input pin connected to the internal ADC peripheral for measuring a small voltage between SRP and SRN where SRN is the bottom of the sense resistor.", 9 TS (in) "Thermistor input", 10 VC5 (in) "Sense voltage input terminal and external capacitor voltage balancing drive output for the 1st capacitor. See 'Series Capacitor Configuration' for systems with less than 5 series", 11 CHGLVL0 (out) "Charge Control Output 0", 12 CHGLVL1 (out) "Charge Control Output 1", 13 VC5BAL (out) "Cell balance control output for the least positive capacitor", 14 SDA (io) "Serial Data: Transmits and Receives data", 15 FAULT (out) "Active high output to indicate fault condition", 16 SCL (in) "Serial clock input: Clocks data on SDA", 17 LLEN (out) "Learn Load Enable Output", 18 RBI (power) "RAM backup pin to provide backup potential to the internal DATA RAM if power is momentarily lost by using a capacitor attached between RBI and GND", 19 GND (power) "Ground", 20 REG 27 (power) "Internal power supply 2.7V bias output", 21 CHGOR (in) "CHG Over Ride input. If not used connect to VSS", 22 NC "No connect, leave pin floating", 23 CHG (out) "P-Channel FET drive for controlling charge", 24 VCC (power) "Positive input from power supply"

## BQ76925PW
designator U?
Analog Front End for 3 to 6 Series Lithium-Ion Cells, -25 to 85 degC, 20-pin TSSOP (PW), Green (RoHS & no Sb/Br); PartNumber: BQ76925PW; Manufacturer: Texas Instruments; Lead Acid: N; Li-Ion: Y; SubFamily: Lithium Ion Protection; DatasheetVersion: SLUSAM9B; PackageVersion: revG, Feb-2011; PackageReference: PW20; PackageDescription: 20-Pin Plastic Thin Small Outline Package 6.5 x 4.4 mm Body ,0.65 mm Pitch; Supplier 1: Digi-Key; Supplier Part Number 1: 296-29506-5-ND; Supplier 2: Farnell; Supplier Part Number 2: 2057083; Supplier 3: Newark; Supplier Part Number 3: 78T1618; Supplier 4: Newark; Supplier Part Number 4: 61T5817; Supplier 5: Mouser; Supplier Part Number 5: 595-BQ76925PW; Eco-Plan: Green (RoHS & no Sb/Br); Li-Polymer: Y; NiCd: N; NiMH: N; Over Voltage Protection: N; Mounting Technology: Surface Mount; Code_JEDEC: MO-153; ComponentLink1Description: Datasheet; ComponentLink1URL: http://www.ti.com/general/docs/lit/getliterature.tsp?genericPartNumber=BQ76925&fileType=pdf
footprint PW20_N (TSOP, 20-Leads, Body 6.5x4.4mm, Pitch 0.65mm, IPC Medium Density)
footprint PW20_L (TSOP, 20-Leads, Body 6.5x4.4mm, Pitch 0.65mm, IPC High Density)
footprint PW20_M (TSOP, 20-Leads, Body 6.5x4.4mm, Pitch 0.65mm, IPC Low Density)
pins: 1 VCTL (power) "3.3-V Regulator control voltage.", 2 BAT (power) "Supply voltage, tied to most positive cell", 3 VC6 (in) "Sense voltage for most positive cell", 4 VC5 (in) "Sense voltage for second most positive cell", 5 VC4 (in) "Sense voltage for third most positive cell", 6 VC3 (in) "Sense voltage for fourth most positive cell", 7 VC2 (in) "Sense voltage for fifth most positive cell", 8 VC1 (in) "Sense voltage for least positive cell", 9 VC0 (in) "Sense voltage for negative end of cell stack", 10 VSS (power) "Ground", 11 SENSEN (in) "Negative current sense", 12 SENSEP (in) "Positive current sense", 13 ALERT (oc) "Overcurrent alert (open drain)", 14 VIOUT (out) "Current measurement voltage", 15 VCOUT (out) "Cell measurement voltage", 16 VTB (out) "Bias voltage for thermistor network", 17 VREF (out) "Reference voltage for ADC", 18 SDA (io) "I2C Data (open drain)", 19 SCL (in) "I2C Clock (open drain)", 20 V3P3 (power) "3.3-V Regulator"

## BQ76925PWR
designator U?
Analog Front End for 3 to 6 Series Lithium-Ion Cells, -25 to 85 degC, 20-pin TSSOP (PW), Green (RoHS & no Sb/Br); PartNumber: BQ76925PWR; Manufacturer: Texas Instruments; Lead Acid: N; Li-Ion: Y; SubFamily: Lithium Ion Protection; DatasheetVersion: SLUSAM9B; PackageVersion: revG, Feb-2011; PackageReference: PW20; PackageDescription: 20-Pin Plastic Thin Small Outline Package 6.5 x 4.4 mm Body ,0.65 mm Pitch; Supplier 1: Digi-Key; Supplier Part Number 1: 296-29341-2-ND; Supplier 2: Digi-Key; Supplier Part Number 2: 296-29341-1-ND; Supplier 3: Digi-Key; Supplier Part Number 3: 296-29341-6-ND; Supplier 4: Newark; Supplier Part Number 4: 61T6560; Supplier 5: Mouser; Supplier Part Number 5: 595-BQ76925PWR; Eco-Plan: Green (RoHS & no Sb/Br); Li-Polymer: Y; NiCd: N; NiMH: N; Over Voltage Protection: N; Mounting Technology: Surface Mount; Code_JEDEC: MO-153; ComponentLink1Description: Datasheet; ComponentLink1URL: http://www.ti.com/general/docs/lit/getliterature.tsp?genericPartNumber=BQ76925&fileType=pdf
footprint PW20_N (TSOP, 20-Leads, Body 6.5x4.4mm, Pitch 0.65mm, IPC Medium Density)
footprint PW20_L (TSOP, 20-Leads, Body 6.5x4.4mm, Pitch 0.65mm, IPC High Density)
footprint PW20_M (TSOP, 20-Leads, Body 6.5x4.4mm, Pitch 0.65mm, IPC Low Density)
pins: 1 VCTL (power) "3.3-V Regulator control voltage.", 2 BAT (power) "Supply voltage, tied to most positive cell", 3 VC6 (in) "Sense voltage for most positive cell", 4 VC5 (in) "Sense voltage for second most positive cell", 5 VC4 (in) "Sense voltage for third most positive cell", 6 VC3 (in) "Sense voltage for fourth most positive cell", 7 VC2 (in) "Sense voltage for fifth most positive cell", 8 VC1 (in) "Sense voltage for least positive cell", 9 VC0 (in) "Sense voltage for negative end of cell stack", 10 VSS (power) "Ground", 11 SENSEN (in) "Negative current sense", 12 SENSEP (in) "Positive current sense", 13 ALERT (oc) "Overcurrent alert (open drain)", 14 VIOUT (out) "Current measurement voltage", 15 VCOUT (out) "Cell measurement voltage", 16 VTB (out) "Bias voltage for thermistor network", 17 VREF (out) "Reference voltage for ADC", 18 SDA (io) "I2C Data (open drain)", 19 SCL (in) "I2C Clock (open drain)", 20 V3P3 (power) "3.3-V Regulator"

## BQ76925RGER
designator U?
Analog Front End for 3 to 6 Series Lithium-Ion Cells, -25 to 85 degC, 24-pin VQFN (RGE), Green (RoHS & no Sb/Br); PartNumber: BQ76925RGER; Manufacturer: Texas Instruments; Lead Acid: N; Li-Ion: Y; SubFamily: Lithium Ion Protection; DatasheetVersion: SLUSAM9B; PackageVersion: revG, Jul-2011; PackageReference: RGE24-2450X2450TP; PackageDescription: 24-Pin Plastic Quad Flatpack No-Lead, 4 x 4 mm Body, 0.5 mm Pitch; Supplier 1: Digi-Key; Supplier Part Number 1: BQ76925RGER-ND; Supplier 2: Newark; Supplier Part Number 2: 76T5272; Supplier 3: Mouser; Supplier Part Number 3: 595-BQ76925RGER; Eco-Plan: Green (RoHS & no Sb/Br); Li-Polymer: Y; NiCd: N; NiMH: N; Over Voltage Protection: N; Mounting Technology: Surface Mount; Code_JEDEC: MO-220; ComponentLink1Description: Datasheet; ComponentLink1URL: http://www.ti.com/general/docs/lit/getliterature.tsp?genericPartNumber=BQ76925&fileType=pdf
footprint RGE24-2450X2450TP (QFN, 24-Leads, Body 4x4mm, Pitch 0.5mm, Thermal Pad 2.45x2.45mm, TI Recommended)
pins: 1 VC6 (in) "Sense voltage for most positive cell.", 2 VC5 (in) "Sense voltage for second most positive cell.", 3 VC4 (in) "Sense voltage for third most positive cell.", 4 VC3 (in) "Sense voltage for fourth most positive cell.", 5 VC2 (in) "Sense voltage for fifth most positive cell.", 6 VC1 (in) "Sense voltage for least positive cell.", 7 VC0 (in) "Sense voltage for negative end of cell stack.", 8 VSS (power) "Ground.", 9 NC "No Connection (leave open).", 10 NC "No Connection (leave open).", 11 SENSEN (in) "Negative current sense.", 12 SENSEP (in) "Positive current sense.", 13 ALERT (oc) "Overcurrent alert (open drain).", 14 VIOUT (power) "Current measurement voltage.", 15 VCOUT (power) "Cell measurement voltage.", 16 VTB (power) "Bias voltage for thermistor network.", 17 VREF (out) "Reference voltage for ADC.", 18 SDA (io) "I2C Data (open drain).", 19 SCL (in) "I2C Clock (open drain).", 20 V3P3 (power) "3.3-V Regulator.", 21 NC "No Connection (leave open).", 22 NC "No Connection (leave open).", 23 VCTL (power) "3.3-V Regulator control voltage.", 24 BAT (power) "Supply voltage, tied to most positive cell.", 25 EP "The thermal pad must be soldered directly to the printed circuit board (PCB)."

## BQ76925RGET
designator U?
Analog Front End for 3 to 6 Series Lithium-Ion Cells, -25 to 85 degC, 24-pin VQFN (RGE), Green (RoHS & no Sb/Br); PartNumber: BQ76925RGET; Manufacturer: Texas Instruments; Lead Acid: N; Li-Ion: Y; SubFamily: Lithium Ion Protection; DatasheetVersion: SLUSAM9B; PackageVersion: revG, Jul-2011; PackageReference: RGE24-2450X2450TP; PackageDescription: 24-Pin Plastic Quad Flatpack No-Lead, 4 x 4 mm Body, 0.5 mm Pitch; Supplier 1: Digi-Key; Supplier Part Number 1: 296-30167-2-ND; Supplier 2: Digi-Key; Supplier Part Number 2: 296-30167-1-ND; Supplier 3: Digi-Key; Supplier Part Number 3: 296-30167-6-ND; Supplier 4: Farnell; Supplier Part Number 4: 2078509; Supplier 5: Newark; Supplier Part Number 5: 83T0354; Supplier 6: Newark; Supplier Part Number 6: 76T5273; Supplier 7: Mouser; Supplier Part Number 7: 595-BQ76925RGET; Eco-Plan: Green (RoHS & no Sb/Br); Li-Polymer: Y; NiCd: N; NiMH: N; Over Voltage Protection: N; Mounting Technology: Surface Mount; Code_JEDEC: MO-220; ComponentLink1Description: Datasheet; ComponentLink1URL: http://www.ti.com/general/docs/lit/getliterature.tsp?genericPartNumber=BQ76925&fileType=pdf
footprint RGE24-2450X2450TP (QFN, 24-Leads, Body 4x4mm, Pitch 0.5mm, Thermal Pad 2.45x2.45mm, TI Recommended)
pins: 1 VC6 (in) "Sense voltage for most positive cell.", 2 VC5 (in) "Sense voltage for second most positive cell.", 3 VC4 (in) "Sense voltage for third most positive cell.", 4 VC3 (in) "Sense voltage for fourth most positive cell.", 5 VC2 (in) "Sense voltage for fifth most positive cell.", 6 VC1 (in) "Sense voltage for least positive cell.", 7 VC0 (in) "Sense voltage for negative end of cell stack.", 8 VSS (power) "Ground.", 9 NC "No Connection (leave open).", 10 NC "No Connection (leave open).", 11 SENSEN (in) "Negative current sense.", 12 SENSEP (in) "Positive current sense.", 13 ALERT (oc) "Overcurrent alert (open drain).", 14 VIOUT (power) "Current measurement voltage.", 15 VCOUT (power) "Cell measurement voltage.", 16 VTB (power) "Bias voltage for thermistor network.", 17 VREF (out) "Reference voltage for ADC.", 18 SDA (io) "I2C Data (open drain).", 19 SCL (in) "I2C Clock (open drain).", 20 V3P3 (power) "3.3-V Regulator.", 21 NC "No Connection (leave open).", 22 NC "No Connection (leave open).", 23 VCTL (power) "3.3-V Regulator control voltage.", 24 BAT (power) "Supply voltage, tied to most positive cell.", 25 EP "The thermal pad must be soldered directly to the printed circuit board (PCB)."

## BQ77908ADBT
designator U?
Stand-Alone Multi-Cell Li-Ion / Li-Polymer Precision Protector, -40 to 85 degC, 38-pin TSSOP (DBT), Green (RoHS & no Sb/Br); PartNumber: BQ77908ADBT; Manufacturer: Texas Instruments; Lead Acid: N; Li-Ion: Y; SubFamily: Lithium Ion Protection; DatasheetVersion: SLUSAV5; PackageVersion: revI, Mar-2011; PackageReference: DBT38; PackageDescription: 38-Pin Plastic Small Outline 0.5 mm Pitch; Supplier 1: Digi-Key; Supplier Part Number 1: 296-31359-ND; Supplier 2: Newark; Supplier Part Number 2: 86T9110; Supplier 3: Mouser; Supplier Part Number 3: 595-BQ77908ADBT; Eco-Plan: Green (RoHS & no Sb/Br); Li-Polymer: Y; NiCd: N; NiMH: N; Over Voltage Protection: Y; Mounting Technology: Surface Mount; Code_JEDEC: MO-153; ComponentLink1Description: Datasheet; ComponentLink1URL: http://www.ti.com/general/docs/lit/getliterature.tsp?genericPartNumber=BQ77908A&fileType=pdf
footprint DBT38_N (TSSOP, 38-Leads, Body 9.7x4.4mm, Pitch 0.5mm, IPC Medium Density)
footprint DBT38_L (TSSOP, 38-Leads, Body 9.7x4.4mm, Pitch 0.5mm, IPC High Density)
footprint DBT38_M (TSSOP, 38-Leads, Body 9.7x4.4mm, Pitch 0.5mm, IPC Low Density)
pins: 1 VC4 (in) "Sense-voltage input terminal for fourth-most-positive cell", 2 NC "No connect (DO NOT CONNECT) externally. Failure to leave NC pins open can cause faulty operation.", 3 VC5 (in) "Sense-voltage input terminal for fifth-most-positive cell", 4 NC "No connect (DO NOT CONNECT) externally. Failure to leave NC pins open can cause faulty operation.", 5 VC6 (in) "Sense-voltage input terminal for sixth-most-positive cell", 6 VC7 (in) "Sense-voltage input terminal for seventh-most-positive cell", 7 VC8 (in) "Sense-voltage input terminal for eighthmost-positive (most-negative) cell", 8 VC9 (in) "Most-negative cell(-) terminal (BAT-)", 9 SENSE(-) (in) "Current-sense input", 10 SENSE(+) (in) "Current-sense input", 11 VSS2 (power) "Analog ground (substrate reference)", 12 VREG (power) "Integrated 3.3-V regulator output", 13 TS (in) "Temperature sensing input", 14 CHGST (in) "Charger-status input, used to detect charger connection/wakeup", 15 VTSB (power) "Thermistor bias supply (sourced from VREG)", 16 DCAP "Energy storage capacitor for discharge FET drive", 17 DSG "Discharge FET (n-channel) gate drive", 18 DPCKN (in) "Pack - discharge negative terminal (load return)", 19 CPCKN (in) "Pack - charger negative terminal (charger return)", 20 CCAP "Energy storage capacitor for charge FET drive", 21 CHG "Charge FET (n-channel) gate drive", 22 ZEDE (in) "Zero Delay test mode pin. Enables serial communications interface and minimizes protection delay times when connected to logic high.Connect to VSS for normal operation.A strong connection is recommended.", 23 GND (power) "Logic ground (not for power return or analog reference). Tie to VSS.", 24 GND (power) "Logic ground (not for power return or analog reference). Tie to VSS.", 25 GND (power) "Logic ground (not for power return or analog reference). Tie to VSS.", 26 SDATA (io) "Serial-communication data input/output used for EEPROM programming (open-drain)", 27 SCLK (in) "Serial-communication clock input used for EEPROM programming", 28 EEPROM (in) "EEPROM programming voltage input. Connect to VSS for normal operation.", 29 VSS1 (power) "Analog ground (substrate reference)", 30 NC "No connect (DO NOT CONNECT) externally. Failure to leave NC pins open can cause faulty operation.", 31 BAT (power) "Power supply voltage, tied to highest cell(+)", 32 NC "No connect (DO NOT CONNECT) externally. Failure to leave NC pins open can cause faulty operation.", 33 NC "No connect (DO NOT CONNECT) externally. Failure to leave NC pins open can cause faulty operation.", 34 VC1 (in) "Sense-voltage input terminal for most-positive cell", 35 NC "No connect (DO NOT CONNECT) externally. Failure to leave NC pins open can cause faulty operation.", 36 VC2 (in) "Sense-voltage input terminal for second-most-positive cell", 37 NC "No connect (DO NOT CONNECT) externally. Failure to leave NC pins open can cause faulty operation.", 38 VC3 (in) "Sense-voltage input terminal for third-most-positive cell"